# EAGLE library part IC_PCF2129T (library akita)
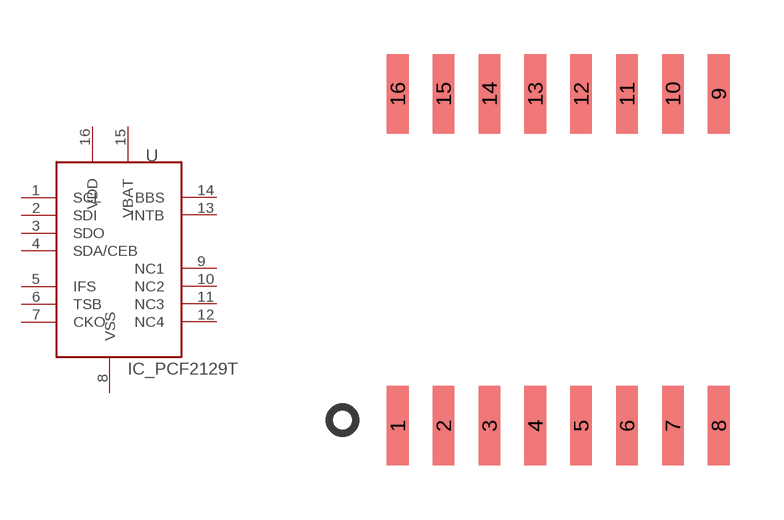
[diagram p98: symbol with the pads of SOIC16W; footprint SOIC16W]

Designator prefix -

## IC_PCF2129T  [SOIC16W]
1  SCL
2  SDI
3  SDO
4  SDA/CEB
5  IFS
6  TSB
7  CKO
8  VSS
9  NC1
10  NC2
11  NC3
12  NC4
13  INTB
14  BBS
15  VBAT
16  VDD

## Footprint SOIC16W (pad centres in mm)
smd 0.6 x 2.2: 1 -4.445,-4.6; 2 -3.175,-4.6; 3 -1.905,-4.6; 4 -0.635,-4.6; 5 0.635,-4.6; 6 1.905,-4.6; 7 3.175,-4.6; 8 4.445,-4.6; 9 4.445,4.6; 10 3.175,4.6; 11 1.905,4.6; 12 0.635,4.6; 13 -0.635,4.6; 14 -1.905,4.6; 15 -3.175,4.6; 16 -4.445,4.6